# EAGLE library part AD5248* (library NewSDR)
Analog Devices 256-Position I2C Compatible Digital Potentiometer
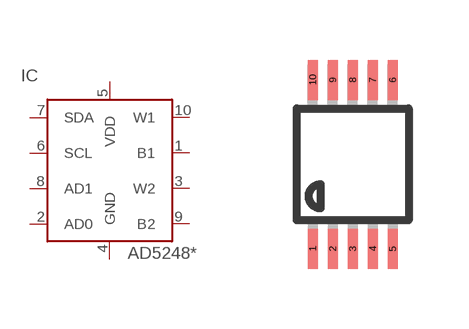
[diagram p99: symbol with the pads of MSOP10; footprint MSOP10]

Designator prefix IC

## AD5248, AD5248-100K, AD5248-10K, AD5248-2.5K, AD5248-50K  [MSOP10]
1  B1  pas
2  AD0  in
3  W2  pas
4  GND  pwr
5  VDD  pwr
6  SCL  in
7  SDA
8  AD1  in
9  B2  pas
10  W1  pas

## Footprint MSOP10 (pad centres in mm)
10-Lead Mini Small Outline Package [MSOP] (RM-10) Source: http://www.analog.com/UploadedFiles/Data_Sheets/35641221898805SSM2167_b.pdf COMPLIANT TO JEDEC STANDARDS MO-187BA
smd 0.25 x 1: 1 -1,-2.113; 2 -0.5,-2.113; 3 0,-2.113; 4 0.5,-2.113; 5 1,-2.113; 6 1,2.113; 7 0.5,2.113; 8 0,2.113; 9 -0.5,2.113; 10 -1,2.113